# EAGLE library part 74HCT595BQ (library EurorackModularParts)
8-bit serial-in/serial-out or parallel-out shift register,QFN-16
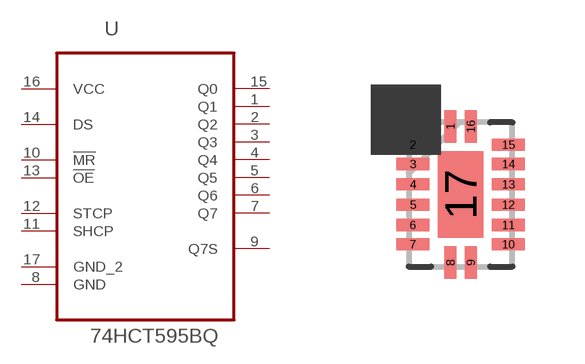
[diagram p13: symbol with the pads of QFN50P250X350X100-17N; footprint QFN50P250X350X100-17N]

Designator prefix U

## 74HCT595BQ (MPN: 74HCT595BQ; OC_FARNELL: 2164865; OC_NEWARK: 55W4682; PACKAGE: QFN-16; SUPPLIER: NXP)  [QFN50P250X350X100-17N]
1  Q1  out
2  Q2  out
3  Q3  out
4  Q4  out
5  Q5  out
6  Q6  out
7  Q7  out
8  GND  pas
9  Q7S  out
10  !MR  in
11  SHCP  in
12  STCP  in
13  !OE  in
14  DS  in
15  Q0  out
16  VCC  pwr
17  GND_2  pas

## Footprint QFN50P250X350X100-17N (pad centres in mm)
smd 0.305 x 0.813: 1 -0.254,1.702; 8 -0.254,-1.702; 9 0.254,-1.702; 16 0.254,1.702
smd 0.813 x 0.305: 2 -1.194,1.245; 3 -1.194,0.762; 4 -1.194,0.254; 5 -1.194,-0.254; 6 -1.194,-0.762; 7 -1.194,-1.245; 10 1.194,-1.245; 11 1.194,-0.762; 12 1.194,-0.254; 13 1.194,0.254; 14 1.194,0.762; 15 1.194,1.245
smd 1.143 x 2.159: 17 0,0